# Altium schematic symbol library Conn,FFC,Bottom,8 Pin,0.5mm.Schlib: 1 symbol
Pins are listed as number, name and electrical type; pins without a type are passive.

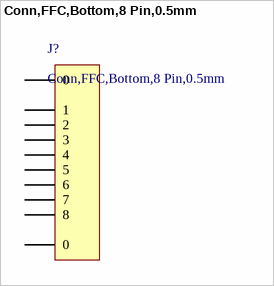
[diagram p0: symbol Conn,FFC,Bottom,8 Pin,0.5mm]

## Conn,FFC,Bottom,8 Pin,0.5mm
designator J?
8 Position FFC, FPC Connector Contacts, Bottom 0.020" (0.50mm) Surface Mount, Right Angle
pins: 0, 0, 1, 2, 3, 4, 5, 6, 7, 8